# Altium footprint library SL_Capacitors_Poly.PcbLib: 1 footprints
Each footprint in its own frame and in the unit in brackets; x right, y up, seen from the top. Pads: shape width x height; smd on the part's side, far side on the other; paste and mask are expansions set on the pad; w line width, h text height; cw(c..) or ccw(c..) is an arc to the next point about the centre after c.
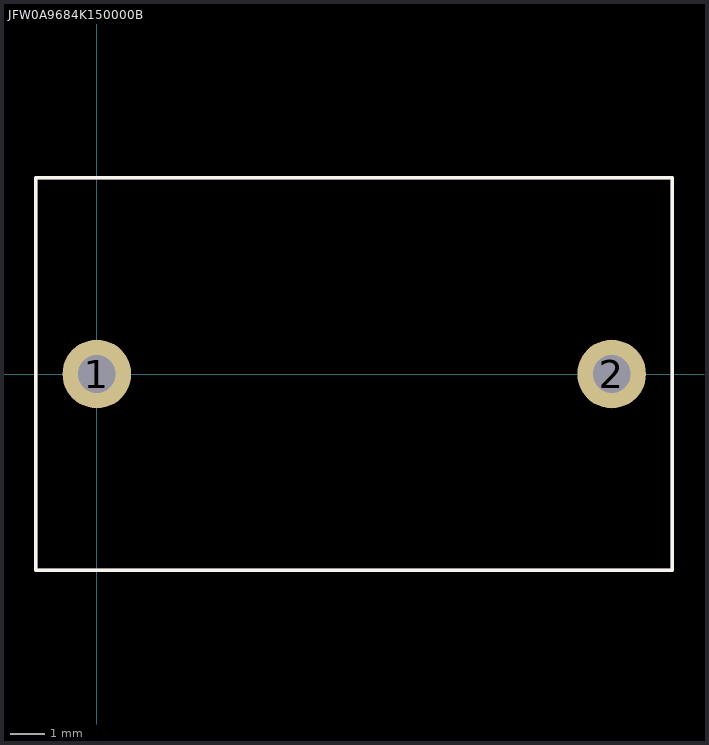
[diagram p0: the footprint, top view; thin cyan lines are the x and y axes]

## JFW0A9684K150000B [mm]
pads (2):
  round 2 hole 1.1: 1(0,0) 2(15,0)
Top Overlay:
  lines w0.1: -1.778,-5.715 16.764,-5.715 16.764,5.715 -1.778,5.715 -1.778,-5.715
Mechanical 13:
  lines w0.1: -1.778,-5.715 16.764,-5.715 16.764,5.715 -1.778,5.715 -1.778,-5.715
Mechanical 15:
  lines w0.1: -1.778,-5.715 16.764,-5.715 16.764,5.715 -1.778,5.715 -1.778,-5.715
3D body "JFW0A9684K150000B.STEP": height 19.1, standoff -4.9, extent -1.5,-5.5 16.5,5.5